# EAGLE library part CH340G (library my-eagle-lib)
CH340 is a series of USB bus adapters, that provides serial, parallel or IrDA interfaces over the USB bus (note: CH340G supports serial interface only). The CH340G integrate circuit provides common MODEM signals to allow adding a UART to a computer, or converting existing UART devices to USB interface. This is a foreign component and most datasheets are in another language. Here is the best datasheet I could find. Datasheet: http://www.handsontec.com/dataspecs/ch340g.pdf Sparkfun also has datasheets on the CH340 family, but not of the CH340G. It may still prove to be useful: https://cdn.sparkfun.com/datasheets/Dev/Arduino/Other/CH340DS1.PDF
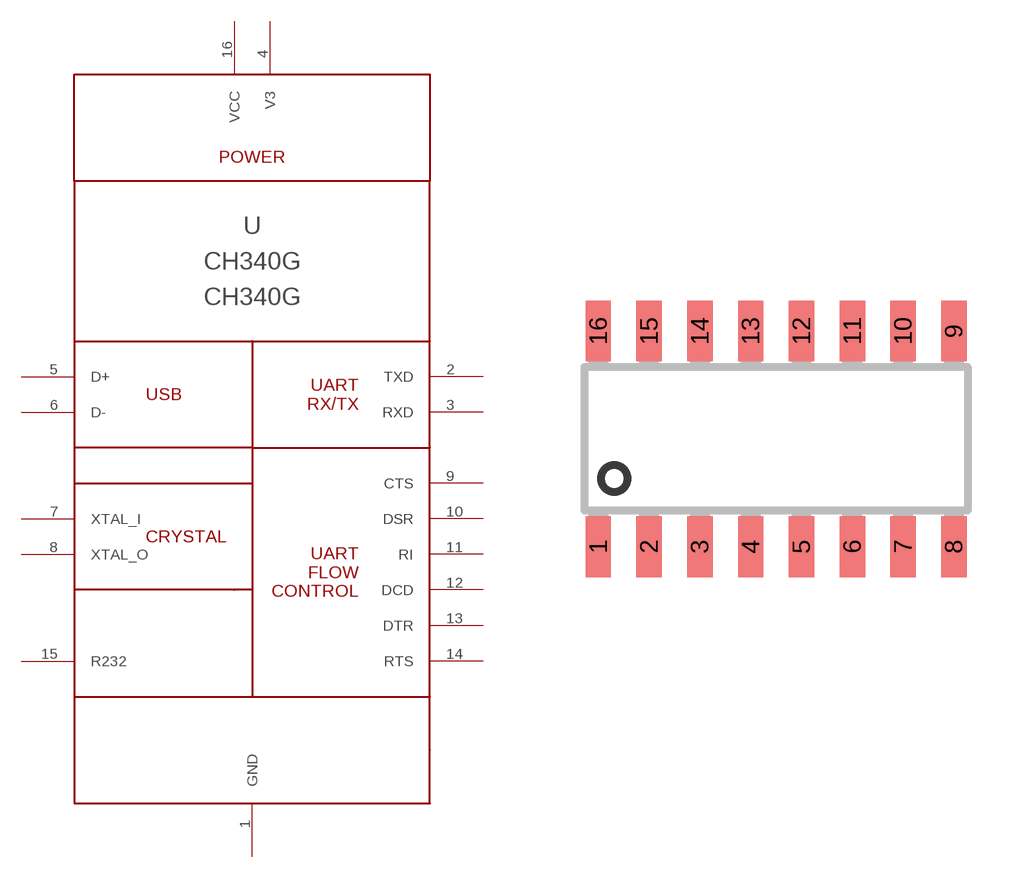
[diagram p4: symbol with the pads of SOIC16; footprint SOIC16]

Designator prefix -

## CH340G  [SOIC16]
1  GND  pwr
2  TXD  out
3  RXD  out
4  V3  pwr
5  D+
6  D-
7  XTAL_I
8  XTAL_O
9  CTS  in
10  DSR  in
11  RI  in
12  DCD  in
13  DTR  out
14  RTS  out
15  R232  in
16  VCC  pwr

## Footprint SOIC16 (pad centres in mm)
SMALL OUTLINE INTEGRATED CIRCUIT 16-Pin (150-Mil) SOIC Source: http://www.cypress.com .. 38-12025_0P_V.pdf
smd 0.635 x 1.524: 1 -4.445,-2.695; 2 -3.175,-2.695; 3 -1.905,-2.695; 4 -0.635,-2.695; 5 0.635,-2.695; 6 1.905,-2.695; 7 3.175,-2.695; 8 4.445,-2.695; 9 4.445,2.695; 10 3.175,2.695; 11 1.905,2.695; 12 0.635,2.695; 13 -0.635,2.695; 14 -1.905,2.695; 15 -3.175,2.695; 16 -4.445,2.695